# EAGLE library part USB-C (library matlock-connectors)
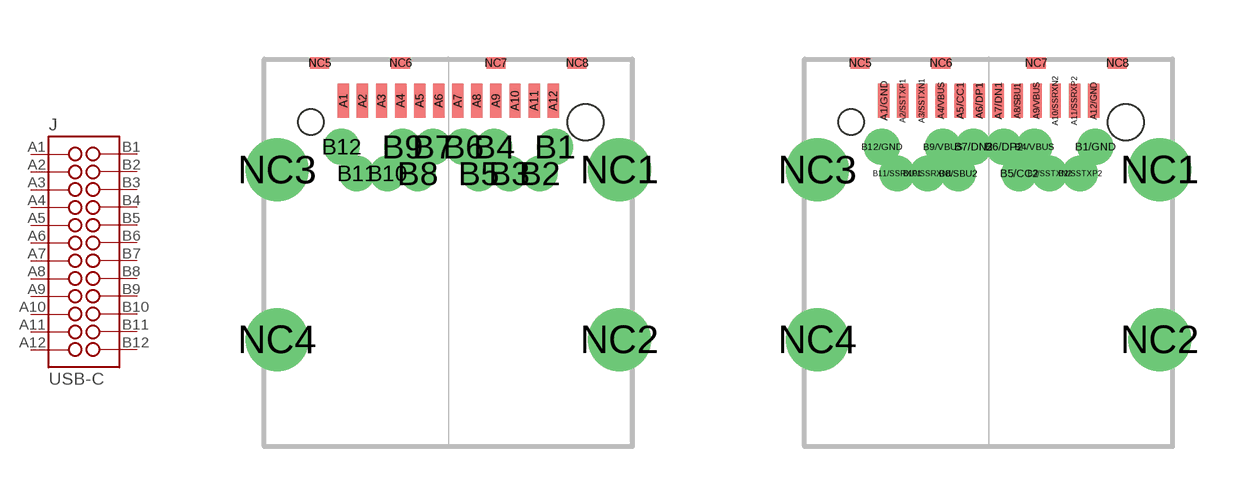
[diagram p2: symbol with the pads of 10137061-00021LF; footprints 10137061-00021LF, 10137061-00021LF_VERBOSE]

Designator prefix J

## USB-C-10137061-00021LF  [10137061-00021LF]
A1  A1
A2  A2
A3  A3
A4  A4
A5  A5
A6  A6
A7  A7
A8  A8
A9  A9
A10  A10
A11  A11
A12  A12
B1  B1
B2  B2
B3  B3
B4  B4
B5  B5
B6  B6
B7  B7
B8  B8
B9  B9
B10  B10
B11  B11
B12  B12

## USB-C-10137061-00021LF_VERBOSE  [10137061-00021LF_VERBOSE]
A1/GND  A1
A2/SSTXP1  A2
A3/SSTXN1  A3
A4/VBUS  A4
A5/CC1  A5
A6/DP1  A6
A7/DN1  A7
A8/SBU1  A8
A9/VBUS  A9
A10/SSRXN2  A10
A11/SSRXP2  A11
A12/GND  A12
B1/GND  B1
B2/SSTXP2  B2
B3/SSTXN2  B3
B4/VBUS  B4
B5/CC2  B5
B6/DP2  B6
B7/DN2  B7
B8/SBU2  B8
B9/VBUS  B9
B10/SSRXN1  B10
B11/SSRXP1  B11
B12/GND  B12

## Footprint 10137061-00021LF (pad centres in mm)
Amphenol FCI 10137061-00021LF USB Type C (usb-c) female connector
smd 0.3 x 0.9: A1 -2.75,3.8; A2 -2.25,3.8; A3 -1.75,3.8; A4 -1.25,3.8; A5 -0.75,3.8; A6 -0.25,3.8; A7 0.25,3.8; A8 0.75,3.8; A9 1.25,3.8; A10 1.75,3.8; A11 2.25,3.8; A12 2.75,3.8
drill 0.43 pad 0.55: B1 2.8,2.59; B2 2.4,1.89; B3 1.6,1.89; B4 1.2,2.59; B5 0.8,1.89; B6 0.4,2.59; B7 -0.4,2.59; B8 -0.8,1.89; B9 -1.2,2.59; B10 -1.6,1.89; B11 -2.4,1.89; B12 -2.8,2.59
drill 1.1 pad 1.422: NC1 4.49,1.99; NC2 4.49,-2.46; NC3 -4.49,1.99; NC4 -4.49,-2.46
smd 0.5 x 0.3: NC5 -3.37,4.79; NC6 -1.25,4.79; NC7 1.25,4.79; NC8 3.38,4.79
hole 0.675 at -3.6,3.24
hole 0.95 at 3.6,3.24

## Footprint 10137061-00021LF_VERBOSE (pad centres in mm)
Amphenol FCI 10137061-00021LF USB Type C (usb-c) female connector (verbose, i.e. full pad/smd description)
smd 0.3 x 0.9: A1/GND -2.75,3.8; A2/SSTXP1 -2.25,3.8; A3/SSTXN1 -1.75,3.8; A4/VBUS -1.25,3.8; A5/CC1 -0.75,3.8; A6/DP1 -0.25,3.8; A7/DN1 0.25,3.8; A8/SBU1 0.75,3.8; A9/VBUS 1.25,3.8; A10/SSRXN2 1.75,3.8; A11/SSRXP2 2.25,3.8; A12/GND 2.75,3.8
drill 0.43 pad 0.55: B1/GND 2.8,2.59; B2/SSTXP2 2.4,1.89; B3/SSTXN2 1.6,1.89; B4/VBUS 1.2,2.59; B5/CC2 0.8,1.89; B6/DP2 0.4,2.59; B7/DN2 -0.4,2.59; B8/SBU2 -0.8,1.89; B9/VBUS -1.2,2.59; B10/SSRXN1 -1.6,1.89; B11/SSRXP1 -2.4,1.89; B12/GND -2.8,2.59
drill 1.1 pad 1.422: NC1 4.49,1.99; NC2 4.49,-2.46; NC3 -4.49,1.99; NC4 -4.49,-2.46
smd 0.5 x 0.3: NC5 -3.37,4.79; NC6 -1.25,4.79; NC7 1.25,4.79; NC8 3.38,4.79
hole 0.675 at -3.6,3.24
hole 0.95 at 3.6,3.24